# EAGLE library part DUAL_OP_AMP_LMV822 (library 764Library)
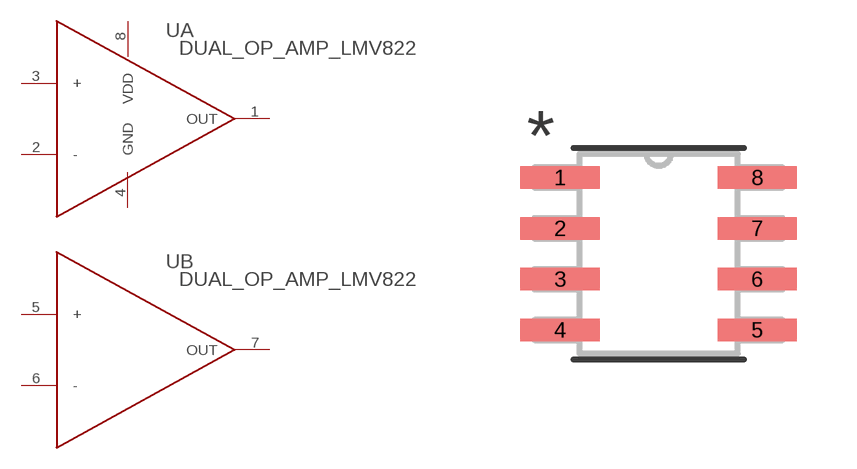
[diagram p1: symbol with the pads of M08A; footprint M08A]

Designator prefix U; gates A=LMV822M-A B=LMV822M-B

## DUAL_OP_AMP_LMV822  [M08A]
1  A:OUT  pas
2  A:-  pas
3  A:+  pas
4  A:GND  pas
5  B:+  pas
6  B:-  pas
7  B:OUT  pas
8  A:VDD  pas

## Footprint M08A (pad centres in mm)
smd 1.981 x 0.559: 1 -2.464,1.905; 2 -2.464,0.635; 3 -2.464,-0.635; 4 -2.464,-1.905; 5 2.464,-1.905; 6 2.464,-0.635; 7 2.464,0.635; 8 2.464,1.905